# Altium schematic symbol library 2POS.SchLib: 1 symbol
Pins are listed as number, name and electrical type; pins without a type are passive.

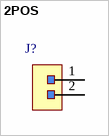
[diagram p0: symbol 2POS]

## 2POS
designator J?
pins: 1, 2